# EAGLE library part TPD4S012DRYR (library interface-chips)
The TPD4S012 is a four-channel Transient Voltage Suppressor (TVS) based Electrostatic Discharge (ESD) protection diode array for USB chargers and USB On-The-Go (OTG) interfaces.
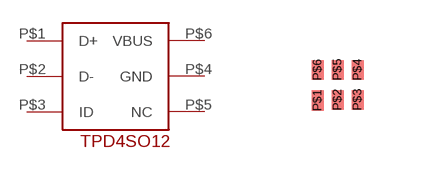
[diagram p1: symbol with the pads of SON6; footprint SON6]

Designator prefix -

## TPD4S012DRYR (CHECKED: NC)  [SON6]
P$1  D+
P$2  D-
P$3  ID
P$4  GND
P$5  NC
P$6  VBUS

## Footprint SON6 (pad centres in mm)
smd 0.3 x 0.52: P$1 -0.5,-0.39
smd 0.3 x 0.49: P$2 0,-0.375; P$3 0.5,-0.375; P$4 0.5,0.375; P$5 0,0.375; P$6 -0.5,0.375